# Altium footprint library 89C51.PcbLib: 9 footprints
Each footprint in its own frame and in the unit in brackets; x right, y up, seen from the top. Pads: shape width x height; smd on the part's side, far side on the other; paste and mask are expansions set on the pad; w line width, h text height; cw(c..) or ccw(c..) is an arc to the next point about the centre after c.
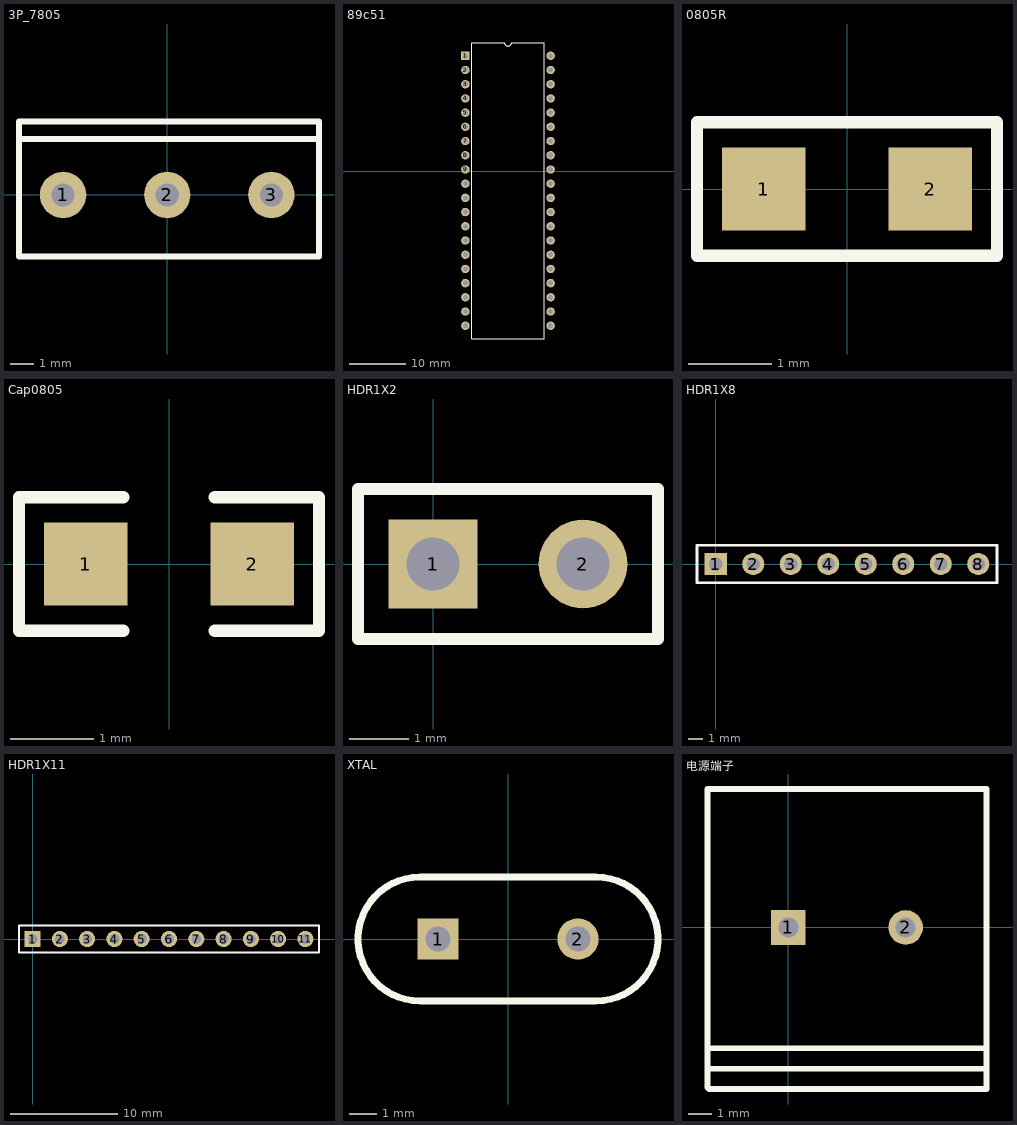
[diagram p0: the footprints below, top view; thin cyan lines are the x and y axes]

## 3P_7805 [mm]
pads (3):
  round 2 hole 1: 1(-4.496,0) 2(0,0) 3(4.496,0)
Top Overlay:
  lines w0.254: -6.401,2.413 -6.401,3.175 6.553,3.175 6.553,2.413 ; -6.401,2.413 -6.401,-2.667 6.553,-2.667 6.553,2.413 ; -6.401,2.413 6.553,2.413

## 89c51 [mm]
pads (40):
  rect 1.5x1.5 hole 0.9: 1(71.628,20.599)
  round 1.5 hole 0.9: 2(71.628,18.059) 3(71.628,15.519) 4(71.628,12.979) 5(71.628,10.439) 6(71.628,7.899) 7(71.628,5.359) 8(71.628,2.819) 9(71.628,0.279) 10(71.628,-2.261) 11(71.628,-4.801) 12(71.628,-7.341) 13(71.628,-9.881) 14(71.628,-12.421) 15(71.628,-14.961) 16(71.628,-17.501) 17(71.628,-20.041) 18(71.628,-22.581) 19(71.628,-25.121) 20(71.628,-27.661) 21(86.868,-27.661) 22(86.868,-25.121) 23(86.868,-22.581) 24(86.868,-20.041) 25(86.868,-17.501) 26(86.868,-14.961) 27(86.868,-12.421) 28(86.868,-9.881) 29(86.868,-7.341) 30(86.868,-4.801) 31(86.868,-2.261) 32(86.868,0.279) 33(86.868,2.819) 34(86.868,5.359) 35(86.868,7.899) 36(86.868,10.439) 37(86.868,12.979) 38(86.868,15.519) 39(86.868,18.059) 40(86.868,20.599)
Top Overlay:
  lines w0.2: 72.798,-30.031 85.698,-30.031 85.698,22.969 79.883,22.969 cw(c79.248,22.969) 78.613,22.969 72.798,22.969 72.798,-30.031
3D body "89C51-DIP40.step": height 5.49, standoff -2.68, extent 71.622,-29.856 87.122,22.744

## 0805R [mm]
height 1.14
pads (2):
  rect 1x1 smd: 1(-1,0) 2(1,0)
Top Overlay:
  lines w0.15: -1.8,-0.8 1.8,-0.8 1.8,0.8 -1.8,0.8 -1.8,-0.8
3D body "RES0805.STEP": height 0.4, standoff -0.01, extent -1,-0.615 1,0.635

## Cap0805 [mm] "Chip Capacitor, Body 2.0x1.3mm, IPC High Density"
height 1.14
pads (2):
  rect 1x1 smd: 1(-1,0) 2(1,0)
Top Overlay:
  lines w0.15: -0.55,-0.8 -1.8,-0.8 -1.8,0.8 -0.55,0.8 ; 0.55,-0.8 1.8,-0.8 1.8,0.8 0.55,0.8
3D body "0805 SMD Capacitor.STEP": height 0.78, standoff 0, extent -1,-0.625 1,0.625

## HDR1X2 [mm] "Connector; Header; 2 Position"
pads (2):
  rect 1.5x1.5 hole 0.9: 1(0,0)
  round 1.5 hole 0.9: 2(2.54,0)
Top Overlay:
  lines w0.2: -1.27,-1.27 -1.27,1.27 3.81,1.27 3.81,-1.27 -1.27,-1.27

## HDR1X8 [mm] "Connector; Header; 8 Position"
pads (8):
  rect 1.5x1.5 hole 0.9: 1(0,0)
  round 1.5 hole 0.9: 2(2.54,0) 3(5.08,0) 4(7.62,0) 5(10.16,0) 6(12.7,0) 7(15.24,0) 8(17.78,0)
Top Overlay:
  lines w0.2: -1.27,-1.27 19.05,-1.27 19.05,1.27 -1.27,1.27 -1.27,-1.27

## HDR1X11 [mm] "Connector; Header; 11 Position"
pads (11):
  rect 1.5x1.5 hole 0.9: 1(0,0)
  round 1.5 hole 0.9: 2(2.54,0) 3(5.08,0) 4(7.62,0) 5(10.16,0) 6(12.7,0) 7(15.24,0) 8(17.78,0) 9(20.32,0) 10(22.86,0) 11(25.4,0)
Top Overlay:
  lines w0.2: -1.27,-1.27 26.67,-1.27 26.67,1.27 0.635,1.27 -1.27,1.27 -1.27,-1.27

## XTAL [mm]
pads (2):
  rect 1.5x1.5 hole 0.9: 1(-2.54,0)
  round 1.5 hole 0.9: 2(2.54,0)
Top Overlay:
  lines w0.254: -3.2,-2.25 cw(c-3.2,0) -3.2,2.25 3.2,2.25 cw(c3.2,0) 3.2,-2.25 -3.2,-2.25
3D body "XTAL1.step": height 11.96, standoff -2.27, extent -5.334,-1.524 5.334,1.524

## 电源端子 [mm] "双脚"
height 14
pads (2):
  rect 1.5x1.5 hole 0.855: 1(0,0)
  round 1.5 hole 0.855: 2(5.08,0)
Top Overlay:
  lines w0.254: -3.5,-6.121 8.555,-6.121 ; -3.5,-5.232 8.555,-5.232 ; -3.5,6 -3.5,-6.939 -3.439,-7 8.534,-7 ; -3.48,5.994 8.56,6.001 ; 8.58,-7 8.58,6